# Altium footprint library MeanWell.PcbLib: 2 footprints
Each footprint in its own frame and in the unit in brackets; x right, y up, seen from the top. Pads: shape width x height; smd on the part's side, far side on the other; paste and mask are expansions set on the pad; w line width, h text height; cw(c..) or ccw(c..) is an arc to the next point about the centre after c.
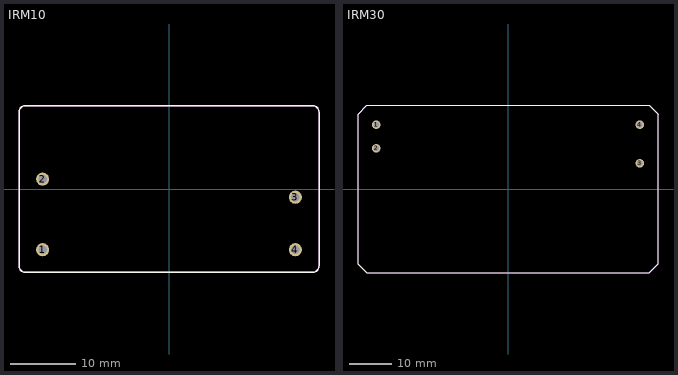
[diagram p0: the footprints below, top view; thin cyan lines are the x and y axes]

## IRM10 [mm]
pads (4):
  round 2 hole 1.3: 1(-19.25,-9.25) 2(-19.25,1.5) 3(19.25,-1.25) 4(19.25,-9.25)
Top Overlay:
  lines w0.2: -22.85,-11.7 ccw(c-21.85,-11.7) -21.85,-12.7 21.85,-12.7 ccw(c21.85,-11.7) 22.85,-11.7 22.85,11.7 ccw(c21.85,11.7) 21.85,12.7 -21.85,12.7 ccw(c-21.85,11.7) -22.85,11.7 -22.85,-11.7
Top Assembly:
  lines w0.2: -22.85,-11.7 ccw(c-21.85,-11.7) -21.85,-12.7 ; -22.85,-11.7 -22.85,11.7 ; -22.85,-11.7 -22.85,11.7 ; -22.85,11.7 cw(c-21.85,11.7) -21.85,12.7 ; -21.85,-12.7 21.85,-12.7 ; -21.85,-12.7 21.85,-12.7 ; -21.85,12.7 21.85,12.7 ; -21.85,12.7 21.85,12.7 ; 21.85,-12.7 ccw(c21.85,-11.7) 22.85,-11.7 ; 21.85,12.7 cw(c21.85,11.7) 22.85,11.7 ; 22.85,-11.7 22.85,11.7 ; 22.85,-11.7 22.85,11.7
3D body: height 21.5, standoff 0, extent -22.85,-12.7 22.85,12.7
3D body: height 0, standoff -3.5, extent -19.752,0.998 -18.748,2.002
3D body: height 0, standoff -3.5, extent -19.752,-9.752 -18.748,-8.748
3D body: height 0, standoff -3.5, extent 18.748,-9.752 19.752,-8.748
3D body: height 0, standoff -3.5, extent 18.748,-1.752 19.752,-0.748

## IRM30 [mm]
pads (4):
  round 2 hole 1.3: 1(-30.75,15) 2(-30.75,9.5) 3(30.75,6) 4(30.75,15)
Top Overlay:
  lines w0.254: -35,-17.5 -33,-19.5 33,-19.5 35,-17.5 35,17.5 33,19.5 -33,19.5 -35,17.5 -35,-17.5
Top Assembly:
  lines w0.254: -35,-17.5 -33,-19.5 33,-19.5 35,-17.5 35,17.5 33,19.5 -33,19.5 -35,17.5 -35,-17.5
3D body "IRM30.stp": height 24, standoff -3.5, extent -34.75,-19.5 34.75,19.5